# Altium footprint library MCU.PcbLib: 63 footprints (part 3 of 4)
Each footprint in its own frame and in the unit in brackets; x right, y up, seen from the top. Pads: shape width x height; smd on the part's side, far side on the other; paste and mask are expansions set on the pad; w line width, h text height; cw(c..) or ccw(c..) is an arc to the next point about the centre after c.
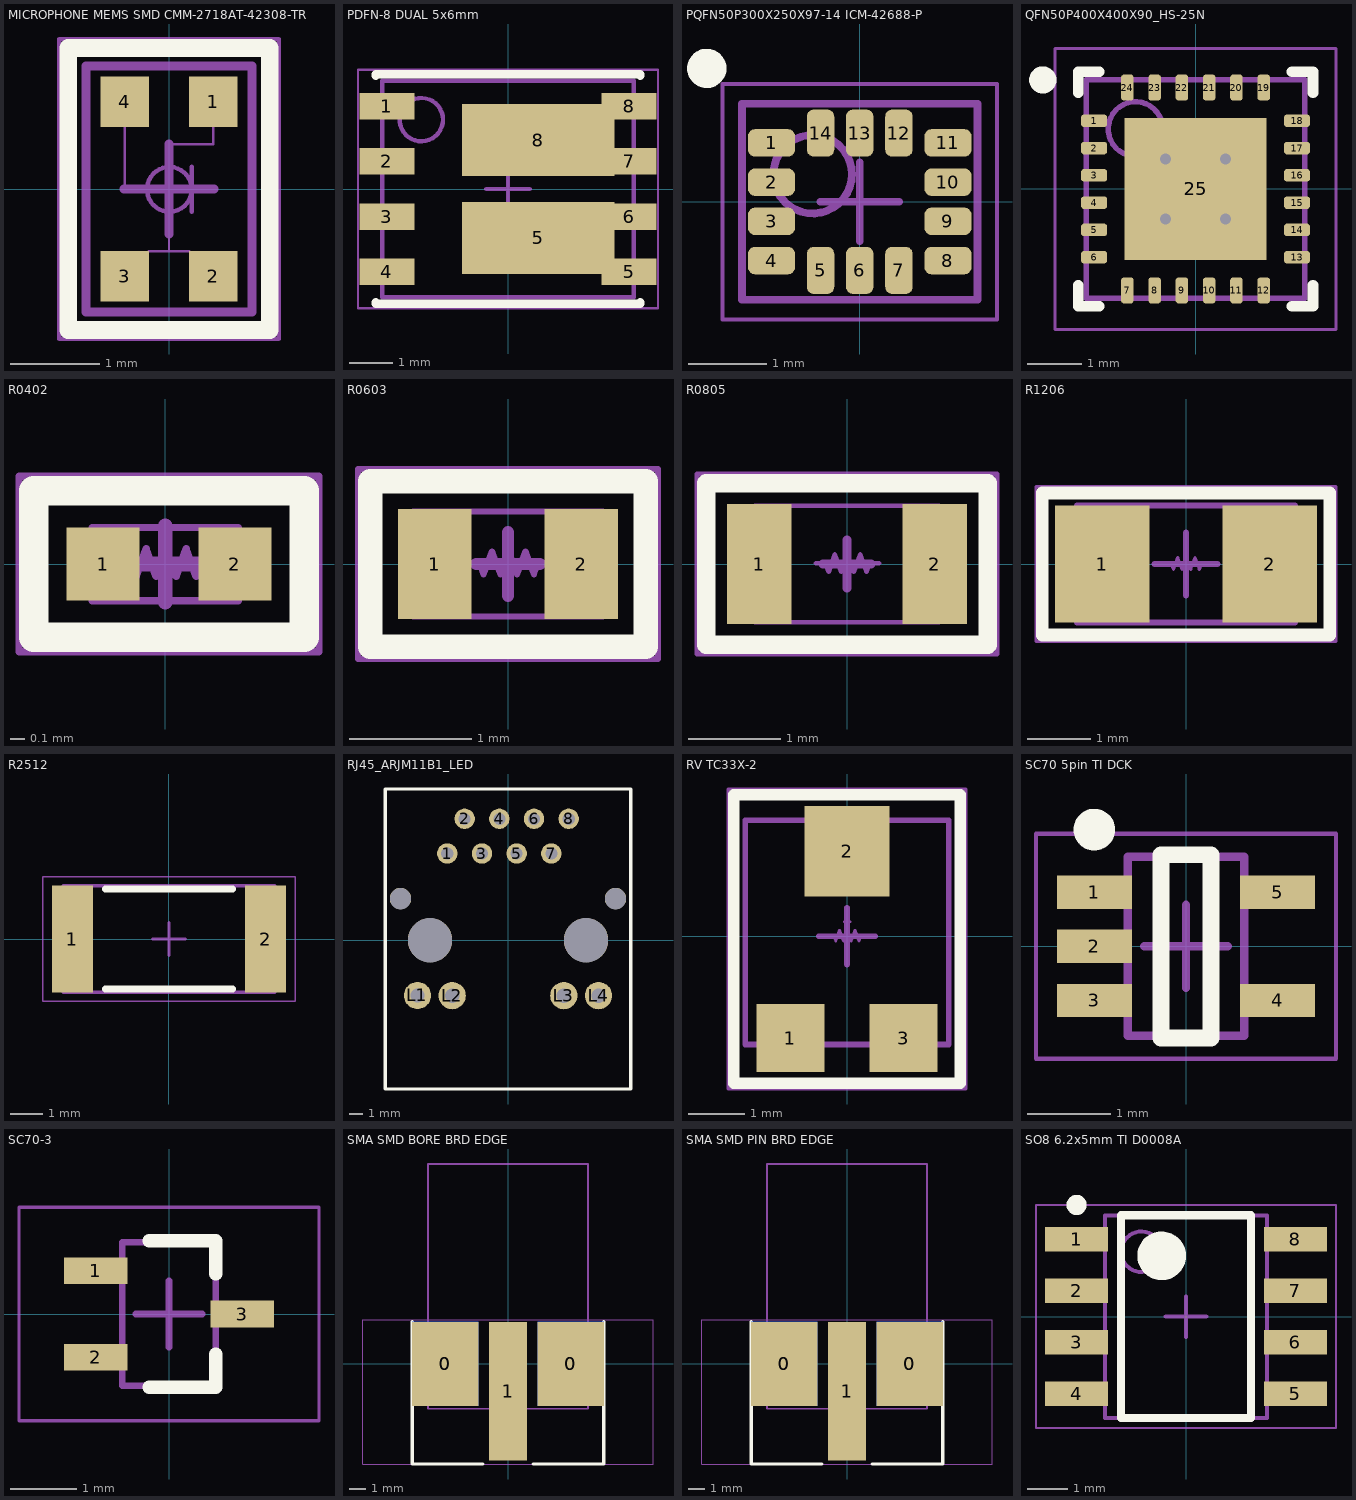
[diagram p2: the footprints below, top view; thin cyan lines are the x and y axes]

## MICROPHONE MEMS SMD CMM-2718AT-42308-TR [mm]
pads (4):
  rect 0.54x0.56 smd: 1(0.495,0.975) 2(0.495,-0.975) 3(-0.495,-0.975) 4(-0.495,0.975)
Top Overlay:
  lines w0.2: -1.125,-1.575 -1.125,1.575 1.125,1.575 1.125,-1.575 -1.125,-1.575
Mechanical 1:
  circle w0.05: c0.004,-0.004 r0.25
  lines w0.025: -0.495,0.695 -0.495,0 -0.246,0 ; -0.225,-0.695 0.225,-0.695 ; 0,-0.695 0,-0.254 ; 0,0.246 0,0.5 0.495,0.5 0.495,0.695
  lines w0.05: 0.254,-0.254 0.254,0.246
Mechanical 13:
  lines w0.1: -0.925,-1.375 -0.925,1.375 0.925,1.375 0.925,-1.375 -0.925,-1.375
Mechanical 15:
  lines w0.05: -1.225,-1.675 -1.225,1.675 1.225,1.675 1.225,-1.675 -1.225,-1.675
  lines w0.1: -0.5,0 0.5,0 ; 0,-0.5 0,0.5
3D body "CUI_DEVICES_CMM-2718AT-42308-TR.step": height 0.95, standoff 0, extent -0.925,-1.375 0.925,1.375

## PDFN-8 DUAL 5x6mm [mm] "SON, 8-Leads, Body 5.75x4.90mm, Pitch 1.27mm, IPC Medium Density"
height 1.1
pads (10):
  rect 1.27x0.61 smd: 1(-2.795,1.905) 2(-2.795,0.635) 3(-2.795,-0.635) 4(-2.795,-1.905) 5(2.795,-1.905) 6(2.795,-0.635) 7(2.795,0.635) 8(2.795,1.905)
  rect 3.52x1.655 smd: 5(0.7,-1.127) 8(0.7,1.128)
Top Overlay:
  lines w0.2: -3.05,-2.61 -3.05,-2.65 3.05,-2.65 3.05,-2.61 ; -3.05,2.61 -3.05,2.65 3.05,2.65 3.05,2.61
Mechanical 13:
  circle w0.1: c-2,1.6 r0.5
  lines w0.1: -2.9,-2.5 2.9,-2.5 2.9,2.5 -2.9,2.5 -2.9,-2.5
Mechanical 15:
  lines w0.05: -3.46,-2.75 3.46,-2.75 3.46,2.75 -3.46,2.75 -3.46,-2.75
  lines w0.1: -0.5,0 0.5,0 ; 0,-0.5 0,0.5
3D body "SON127P490X110-8N.step": height 1.1, standoff 0, extent -2.901,-2.5 2.901,2.5

## PQFN50P300X250X97-14 ICM-42688-P [mm] "PQFN, 14-Leads, Body 3.00x2.50mm, Pitch 0.50mm, IPC Medium Density"
height 0.97
pads (14):
  rrect50% 0.6x0.35 smd: 1(-1.125,0.75) 2(-1.125,0.25) 3(-1.125,-0.25) 4(-1.125,-0.75) 8(1.125,-0.75) 9(1.125,-0.25) 10(1.125,0.25) 11(1.125,0.75)
  rrect50% 0.35x0.6 smd: 5(-0.5,-0.875) 6(0,-0.875) 7(0.5,-0.875) 12(0.5,0.875) 13(0,0.875) 14(-0.5,0.875)
Top Overlay:
  circle w0.25: c-1.95,1.7 r0.125
Top Assembly:
  circle w0.1: c-0.6,0.35 r0.5
  lines w0.1: -1.5,-1.25 1.5,-1.25 1.5,1.25 -1.5,1.25 -1.5,-1.25
Top Courtyard:
  lines w0.05: -1.75,-1.5 1.75,-1.5 1.75,1.5 -1.75,1.5 -1.75,-1.5
  lines w0.1: -0.5,0 0.5,0 ; 0,-0.5 0,0.5
3D body "PQFN50P300X250X97-14 ICM-42688-P.step": height 0.97, standoff 0, extent -1.5,-1.25 1.5,1.25

## QFN50P400X400X90_HS-25N [mm] "QFN, 24-Leads, Body 4.00x4.00mm, Pitch 0.50mm, Thermal Pad 2.60x2.60mm, IPC Medium Density"
height 0.9
pads (25):
  rrect50% 0.48x0.23 smd: 1(-1.86,1.25) 2(-1.86,0.75) 3(-1.86,0.25) 4(-1.86,-0.25) 5(-1.86,-0.75) 6(-1.86,-1.25) 13(1.86,-1.25) 14(1.86,-0.75) 15(1.86,-0.25) 16(1.86,0.25) 17(1.86,0.75) 18(1.86,1.25)
  rrect50% 0.23x0.48 smd: 7(-1.25,-1.86) 8(-0.75,-1.86) 9(-0.25,-1.86) 10(0.25,-1.86) 11(0.75,-1.86) 12(1.25,-1.86) 19(1.25,1.86) 20(0.75,1.86) 21(0.25,1.86) 22(-0.25,1.86) 23(-0.75,1.86) 24(-1.25,1.86)
  rect 2.6x2.6 smd: 25(0,0)
via -0.55,0.55 diameter 0.5 hole 0.2
via 0.55,0.55 diameter 0.5 hole 0.2
via -0.55,-0.55 diameter 0.5 hole 0.2
via 0.55,-0.55 diameter 0.5 hole 0.2
Top Overlay:
  circle w0.25: c-2.8,2 r0.125
  lines w0.2: -2.15,-1.765 -2.15,-2.15 -1.765,-2.15 ; -2.15,1.765 -2.15,2.15 -1.765,2.15 ; 1.765,-2.15 2.15,-2.15 2.15,-1.765 ; 1.765,2.15 2.15,2.15 2.15,1.765
Top Assembly:
  circle w0.1: c-1.1,1.1 r0.5
  lines w0.1: -2,-2 -2,2 2,2 2,-2 -2,-2
Top Courtyard:
  lines w0.05: -2.575,-2.575 -2.575,2.575 2.575,2.575 2.575,-2.575 -2.575,-2.575
  lines w0.1: -0.5,0 0.5,0 ; 0,-0.5 0,0.5
3D body "QFN50P400X400X90_HS-25N.step": height 0.9, standoff 0, extent -2.001,-2.001 2.001,2.001

## R0402 [mm]
pads (2):
  rect 0.5x0.5 smd: 1(-0.425,0) 2(0.475,0)
Top Overlay:
  lines w0.2: -0.9,-0.5 -0.9,0.5 0.95,0.5 0.95,-0.5 -0.9,-0.5
Mechanical 13:
  lines w0.05: -0.335,0.009 -0.234,0.009 -0.2,-0.085 -0.131,0.103 -0.063,-0.085 0.006,0.103 0.074,-0.085 0.142,0.103 0.211,-0.085 0.245,0.009 0.347,0.009 ; -0.5,-0.25 0.5,-0.25 0.5,0.25 -0.5,0.25 -0.5,-0.25
Mechanical 15:
  lines w0.05: -1,-0.6 1.05,-0.6 1.05,0.6 -1,0.6 -1,-0.6
  lines w0.1: -0.26,0 0.26,0 ; 0,-0.26 0,0.26
3D body "User Library-CR1005-0402.step": height 0.36, standoff 0.01, extent -0.5,-0.25 0.5,0.25

## R0603 [mm]
pads (2):
  rect 0.6x0.9 smd: 1(-0.6,0) 2(0.6,0)
Top Overlay:
  lines w0.2: -1.125,-0.675 1.125,-0.675 1.125,0.675 -1.125,0.675 -1.125,0.175 -1.125,-0.675
Mechanical 13:
  lines w0.05: -0.335,0.01 -0.234,0.01 -0.199,-0.084 -0.131,0.103 -0.063,-0.084 0.006,0.103 0.074,-0.084 0.143,0.103 0.211,-0.084 0.245,0.01 0.347,0.01 ; -0.775,-0.43 0.775,-0.43 0.775,0.43 -0.775,0.43 -0.775,-0.43
Mechanical 15:
  lines w0.05: -1.225,-0.775 -1.225,0.775 1.225,0.775 1.225,-0.775 -1.225,-0.775
  lines w0.1: -0.26,0 0.26,0 ; 0,-0.26 0,0.26
3D body "User Library-SMD Resistors.step": height 0.46, standoff 0.01, extent -0.775,-0.43 0.775,0.43

## R0805 [mm]
pads (2):
  rect 0.7x1.3 smd: 1(-0.95,0) 2(0.95,0)
Top Overlay:
  lines w0.2: -1.525,-0.875 -1.525,0.125 -1.525,0.875 1.525,0.875 1.525,-0.875 -1.525,-0.875
Mechanical 13:
  lines w0.05: -0.335,0.009 -0.234,0.009 -0.2,-0.085 -0.131,0.103 -0.063,-0.085 0.006,0.103 0.074,-0.085 0.142,0.103 0.211,-0.085 0.245,0.009 0.347,0.009 ; -1,-0.63 -1,0.63 1,0.63 1,-0.63 -1,-0.63
Mechanical 15:
  lines w0.05: -1.625,-0.975 -1.625,0.975 1.625,0.975 1.625,-0.975 -1.625,-0.975
  lines w0.1: -0.26,0 0.26,0 ; 0,-0.26 0,0.26
3D body "User Library-SMD Resistors (1).step": height 0.46, standoff 0.01, extent -1,-0.63 1,0.63

## R1206 [mm] "Chip Resistor, 2-Leads, Body 3.20x1.60mm, IPC Medium Density"
height 0.65
pads (2):
  rect 1.5x1.85 smd: 1(-1.325,0) 2(1.325,0)
Top Overlay:
  lines w0.2: -2.275,-1.125 2.275,-1.125 2.275,1.125 -2.275,1.125 -2.275,-1.125
Mechanical 13:
  lines w0.05: -0.335,0.009 -0.234,0.009 -0.2,-0.085 -0.131,0.103 -0.063,-0.085 0.006,0.103 0.074,-0.085 0.142,0.103 0.211,-0.085 0.245,0.009 0.347,0.009
  lines w0.1: -1.725,-0.925 1.725,-0.925 1.725,0.925 -1.725,0.925 -1.725,-0.925
Mechanical 15:
  lines w0.05: -2.375,-1.225 2.375,-1.225 2.375,1.225 -2.375,1.225 -2.375,-1.225
  lines w0.1: -0.5,0 0.5,0 ; 0,-0.5 0,0.5
3D body "RESC3216X06N.step": height 0.65, standoff 0, extent -1.725,-0.925 1.725,0.925

## R2512 [mm] "Chip Resistor, 2-Leads, Body 6.35x3.10mm, IPC Medium Density"
height 0.65
pads (2):
  rect 1.25x3.25 smd: 1(-2.95,0) 2(2.95,0)
Top Overlay:
  lines w0.2: -1.95,-1.525 1.95,-1.525 ; -1.95,1.525 1.95,1.525
Top Assembly:
  lines w0.1: -3.225,-1.625 3.225,-1.625 3.225,1.625 -3.225,1.625 -3.225,-1.625
Top Courtyard:
  lines w0.05: -3.85,-1.9 3.85,-1.9 3.85,1.9 -3.85,1.9 -3.85,-1.9
  lines w0.1: -0.5,0 0.5,0 ; 0,-0.5 0,0.5
3D body "R2512_.step": height 0.65, standoff 0, extent -3.225,-1.625 3.225,1.625

## RJ45_ARJM11B1_LED [mm]
pads (16):
  round 1.5 hole 0.89: 1(-4.445,6.35) 2(-3.175,8.89) 3(-1.905,6.35) 4(-0.635,8.89) 5(0.635,6.35) 6(1.905,8.89) 7(3.175,6.35) 8(4.445,8.89)
  round 2 hole 1.05: L1(-6.63,-4.05) L2(-4.09,-4.06) L3(4.09,-4.06) L4(6.63,-4.06)
  round 1.57 hole 1.57: ""(-7.875,3.05) ""(7.875,3.05)
  round 3.25 hole 3.25: ""(-5.71,0) ""(5.715,0)
Top Overlay:
  lines w0.254: -9,-10.9 -9,11.075 9,11.075 9,-10.9 -9,-10.9
3D body "ARJ11B_use.STEP": height 13.85, standoff -3.29, extent -8.16,-10.92 8.1,10.67

## RV TC33X-2 [mm]
pads (3):
  rect 1.2x1.2 smd: 1(-1,-1.8) 3(1,-1.8)
  rect 1.5x1.6 smd: 2(0,1.5)
Top Overlay:
  lines w0.2: -2,-2.6 2,-2.6 2,2.5 -2,2.5 -2,-2.6
Mechanical 1:
  lines w0.05: -0.048,0.255 0.001,0.216 0.051,0.255
Mechanical 13:
  lines w0.05: -0.335,0.009 -0.234,0.009 -0.2,-0.085 -0.131,0.103 -0.063,-0.085 0.006,0.103 0.074,-0.085 0.142,0.103 0.211,-0.085 0.245,0.009 0.347,0.009 ; 0,0.5 0.001,0.216
  lines w0.1: -1.8,-1.913 1.8,-1.913 1.8,2.05 -1.8,2.05 -1.8,-1.913
Mechanical 15:
  lines w0.05: -2.1,-2.7 2.1,-2.7 2.1,2.6 -2.1,2.6 -2.1,-2.7
  lines w0.1: -0.5,0 0.5,0 ; 0,-0.5 0,0.5
3D body "TC-33X-2.stp": height 1.13, standoff -0.02, extent -1.8,-1.913 1.8,2.05

## SC70 5pin TI DCK [mm]
height 1.1
pads (5):
  rect 0.9x0.4 smd: 1(-1.1,0.65) 2(-1.1,0) 3(-1.1,-0.65) 4(1.1,-0.65) 5(1.1,0.65)
Top Overlay:
  circle w0.25: c-1.1,1.4 r0.125
  lines w0.2: -0.3,-1.1 0.3,-1.1 0.3,1.1 -0.3,1.1 -0.3,-1.1
Mechanical 13:
  lines w0.1: -0.7,-1.075 -0.7,1.075 0.7,1.075 0.7,-1.075 -0.7,-1.075
Mechanical 15:
  lines w0.05: -1.8,-1.35 -1.8,1.35 1.8,1.35 1.8,-1.35 -1.8,-1.35
  lines w0.1: -0.5,0 0.5,0 ; 0,-0.5 0,0.5
3D body "SC70 5pin TI DCK.step": height 1.1, standoff 0, extent -1.2,-1.075 1.2,1.075

## SC70-3 [mm] "SOT23, 3-Leads, Body 2.00x2.10mm, Pitch 0.65mm, IPC Low Density"
height 1.1
pads (3):
  rect 0.95x0.4 smd: 1(-1.1,0.65) 2(-1.1,-0.65) 3(1.1,0)
Top Overlay:
  lines w0.2: -0.3,-1.1 0.7,-1.1 0.7,-0.6 ; -0.3,1.1 0.7,1.1 0.7,0.6
Top Assembly:
  lines w0.1: -0.7,-1.075 -0.7,1.075 0.7,1.075 0.7,-1.075 -0.7,-1.075
Top Courtyard:
  lines w0.05: -2.25,-1.6 -2.25,1.6 2.25,1.6 2.25,-1.6 -2.25,-1.6
  lines w0.1: -0.5,0 0.5,0 ; 0,-0.5 0,0.5
3D body "SC70-3.step": height 1.1, standoff 0, extent -1.2,-1.075 1.2,1.075

## SMA SMD BORE BRD EDGE [mm]
height 1.45
pads (5):
  rect 4x5.08 smd paste-25.375: 0(-3.786,0) 0(3.786,0)
  rect 4x5.08 smd far side paste-25.375: 0(-3.786,0) 0(3.786,0)
  rect 2.286x8.382 smd paste-25.375: 1(0,-1.651)
Top Overlay:
  lines w0.2: -5.788,2.54 -5.788,-6.042 -1.508,-6.042 ; 1.508,-6.042 5.788,-6.042 5.788,2.54
Top Assembly:
  lines w0.1: -4.826,-2.705 -4.826,12.065 4.826,12.065 4.826,-2.705 -4.826,-2.705
Top Courtyard:
  lines w0.05: -8.763,-6.042 -8.763,2.667 8.763,2.667 8.763,-6.042 -8.763,-6.042
  lines w0.1: -0.5,0 0.5,0 ; 0,-0.5 0,0.5
3D body "142-0701-801.stp": height 4.36, standoff -3.57, extent -4.763,-2.21 4.762,12.065

## SMA SMD PIN BRD EDGE [mm]
height 1.45
pads (5):
  rect 4x5.08 smd paste-25.375: 0(-3.786,0) 0(3.786,0)
  rect 4x5.08 smd far side paste-25.375: 0(-3.786,0) 0(3.786,0)
  rect 2.286x8.382 smd paste-25.375: 1(0,-1.651)
Top Overlay:
  lines w0.2: -5.788,2.54 -5.788,-6.042 -1.508,-6.042 ; 1.508,-6.042 5.788,-6.042 5.788,2.54
Top Assembly:
  lines w0.1: -4.826,-2.705 4.826,-2.705 4.826,12.065 -4.826,12.065 -4.826,-2.705
Top Courtyard:
  lines w0.05: -8.763,-6.042 8.763,-6.042 8.763,2.667 -8.763,2.667 -8.763,-6.042
  lines w0.1: -0.5,0 0.5,0 ; 0,-0.5 0,0.5
3D body "CONSMA013.062--3DModel-STEP-56544.STEP": height 4.38, standoff -3.62, extent -4.619,-1.956 4.619,15.494

## SO8 6.2x5mm TI D0008A [mm]
height 1.75
pads (8):
  rect 1.55x0.6 smd: 1(-2.7,1.905) 2(-2.7,0.635) 3(-2.7,-0.635) 4(-2.7,-1.905) 5(2.7,-1.905) 6(2.7,-0.635) 7(2.7,0.635) 8(2.7,1.905)
Top Overlay:
  circle w0.6: c-0.6,1.5 r0.3
  circle w0.25: c-2.7,2.755 r0.125
  lines w0.2: -1.6,-2.5 1.6,-2.5 1.6,2.5 -1.6,2.5 -1.6,-2.5
Mechanical 13:
  circle w0.1: c-1.1,1.6 r0.5
  lines w0.1: -2,-2.5 2,-2.5 2,2.5 -2,2.5 -2,-2.5
Mechanical 15:
  lines w0.05: -3.7,-2.75 3.7,-2.75 3.7,2.75 -3.7,2.75 -3.7,-2.75
  lines w0.1: -0.5,0 0.5,0 ; 0,-0.5 0,0.5
3D body "NE5532DR.STEP": height 1.75, standoff 0, extent -3,-2.45 3,2.45